# Altium footprint library Huan.PcbLib: 34 footprints (part 1 of 3)
Each footprint in its own frame and in the unit in brackets; x right, y up, seen from the top. Pads: shape width x height; smd on the part's side, far side on the other; paste and mask are expansions set on the pad; w line width, h text height; cw(c..) or ccw(c..) is an arc to the next point about the centre after c.
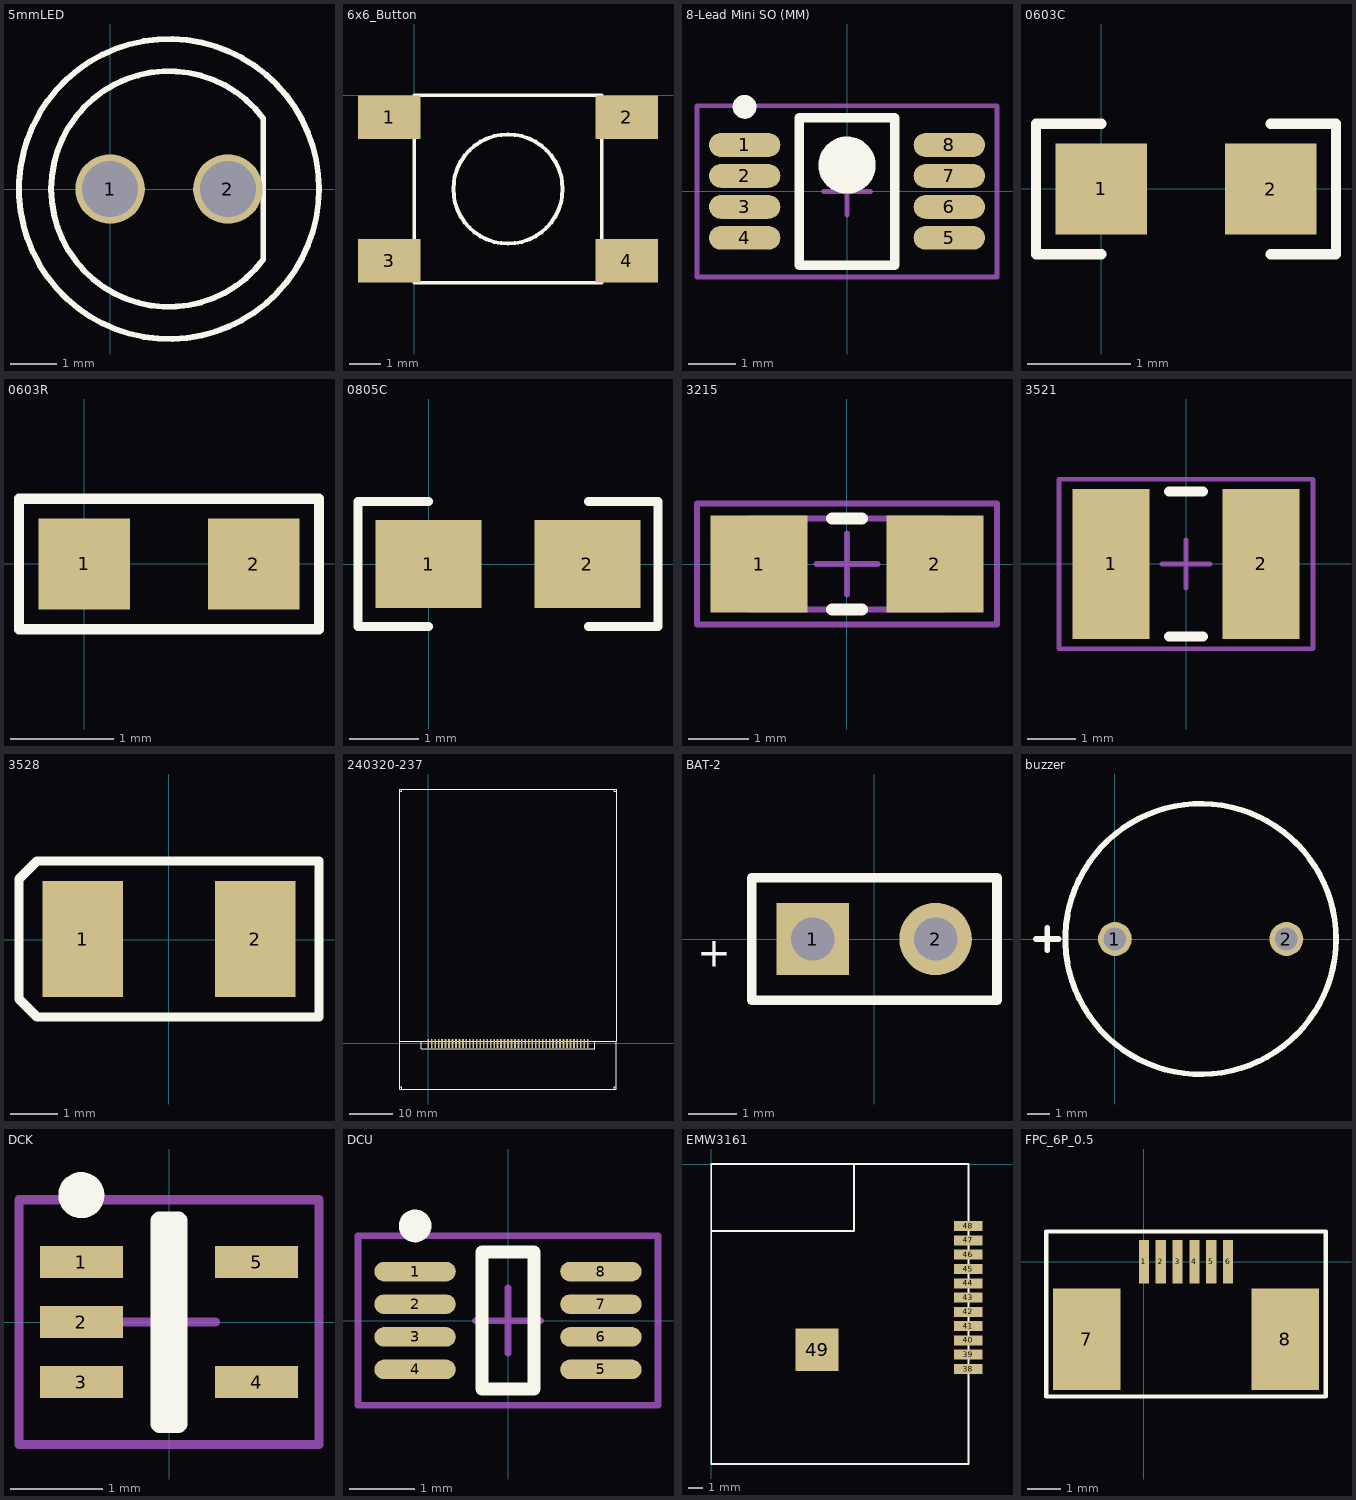
[diagram p0: the footprints below, top view; thin cyan lines are the x and y axes]

## 5mmLED [mm] "5mmLED 绿"
pads (2):
  round 1.5 hole 1.2: 1(0,0) 2(2.54,0)
Top Overlay:
  circle w0.127: c1.27,0 r3.233
  lines w0.127: 3.302,-1.524 cw(c1.27,0) 3.302,1.524 3.302,-1.524
3D body: height 8.81, standoff -5.99, extent -1.694,-3.048 3.726,2.972

## 6x6_Button [mm]
pads (4):
  rect 2x1.4 smd: 1(-0.8,-0.7) 2(6.8,-0.7) 3(-0.8,-5.3) 4(6.8,-5.3)
Top Overlay:
  circle w0.127: c3,-3 r1.75
  lines w0.127: 0,-6 6,-6 6,0 0,0 0,-6
3D body: height 5, standoff 0, extent -2.003,-6 7.997,0

## 8-Lead Mini SO (MM) [mm] "TSOP, 8-Leads, Body 3.1x3.1mm (max), Pitch 0.65mm, IPC Medium Density"
height 1.09
pads (8):
  oval 1.5x0.5 smd: 1(-2.15,0.975) 2(-2.15,0.325) 3(-2.15,-0.325) 4(-2.15,-0.975) 5(2.15,-0.975) 6(2.15,-0.325) 7(2.15,0.325) 8(2.15,0.975)
Top Overlay:
  circle w0.25: c-2.15,1.775 r0.125
  circle w0.6: c0,0.55 r0.3
  lines w0.2: -1,-1.55 -1,1.55 1,1.55 1,-1.55 -1,-1.55
Mechanical 15:
  lines w0.1: -0.5,0 0.5,0 ; 0,-0.5 0,0.5 ; -3.15,-1.8 -3.15,1.8 3.15,1.8 3.15,-1.8 -3.15,-1.8
3D body: height 1.1, standoff 0, extent -2.551,-1.501 2.449,1.499

## 0603C [mil]
pads (2):
  rect 35x35 smd: 1(0,0) 2(65,0)
Top Overlay:
  lines w4: 0,-25 -25,-25 -25,25 0,25 ; 65,-25 90,-25 90,25 65,25
3D body: height 35.04, standoff -0.39, extent -20,-20 82.36,19.37

## 0603R [mil]
pads (2):
  rect 35x35 smd: 1(0,0) 2(65,0)
Top Overlay:
  lines w4: -25,-25 20,-25 90,-25 90,25 43,25 -25,25 -25,-25
3D body: height 20.79, standoff 0, extent -19.18,-20.37 83.18,19

## 0805C [mil]
pads (2):
  rect 60x50 smd: 1(0,0) 2(90,0)
Top Overlay:
  lines w5: 0,-35.43 -40,-35.43 -40,35.43 0,35.43 ; 90.55,-35.43 130,-35.43 130,35.43 90.55,35.43
3D body: height 36.61, standoff -0.39, extent -15.06,-27.12 103.06,28

## 3215 [mm] "Precision Wire Wound Inductor, 2-Leads, Body 3.2x1.5mm, IPC Medium Density"
height 0.55
pads (2):
  rect 1.6x1.6 smd: 1(-1.45,0) 2(1.45,0)
Top Overlay:
  lines w0.2: -0.25,-0.75 0.25,-0.75 ; -0.25,0.75 0.25,0.75
Mechanical 13:
  lines w0.1: -1.6,-0.75 -1.6,0.75 1.6,0.75 1.6,-0.75 -1.6,-0.75
Mechanical 15:
  lines w0.1: -0.5,0 0.5,0 ; 0,-0.5 0,0.5 ; -2.475,-1 -2.475,1 2.475,1 2.475,-1 -2.475,-1
3D body: height 0.55, standoff 0, extent -1.6,-0.75 1.6,0.75

## 3521 [mm] "Precision Wire Wound Inductor, 2-Leads, Body 3.5x3.0mm, IPC Medium Density"
height 1.6
pads (2):
  rect 1.6x3.1 smd: 1(-1.55,0) 2(1.55,0)
Top Overlay:
  lines w0.2: -0.35,-1.5 0.35,-1.5 ; -0.35,1.5 0.35,1.5
Mechanical 15:
  lines w0.1: -0.5,0 0.5,0 ; 0,-0.5 0,0.5 ; -2.625,-1.75 -2.625,1.75 2.625,1.75 2.625,-1.75 -2.625,-1.75

## 3528 [mm]
pads (2):
  rect 1.7x2.45 smd: 1(-1.818,0.011) 2(1.832,0.011)
Top Overlay:
  lines w0.2: -3.168,-1.259 -2.787,-1.64 3.182,-1.64 3.182,1.662 -2.787,1.662 -3.168,1.281 -3.168,-1.259
3D body: height 2.03, standoff 0, extent -1.825,-1.482 1.875,1.448

## 240320-237 [mm]
pads (47):
  rect 0.4x2 smd: 1(36.8,0) 2(36,0) 3(35.2,0) 4(34.4,0) 5(33.6,0) 6(32.8,0) 7(32,0) 8(31.2,0) 9(30.4,0) 10(29.6,0) 11(28.8,0) 12(28,0) 13(27.2,0) 14(26.4,0) 15(25.6,0) 16(24.8,0) 17(24,0) 18(23.2,0) 19(22.4,0) 20(21.6,0) 21(20.8,0) 22(20,0) 23(19.2,0) 24(18.4,0) 25(17.6,0) 26(16.8,0) 27(16,0) 28(15.2,0) 29(14.4,0) 30(13.6,0) 31(12.8,0) 32(12,0) 33(11.2,0) 34(10.4,0) 35(9.6,0) 36(8.8,0) 37(8,0) 38(7.2,0) 39(6.4,0) 40(5.6,0) 41(4.8,0) 42(4,0) 43(3.2,0) 44(2.4,0) 45(1.6,0) 46(0.8,0) 47(0,0)
Top Overlay:
  lines w0.127: -6.6,58.2 -6.1,58.2 -6.1,58.7 ; -6.1,-10.5 -6.1,-10 -6.6,-10 -6.6,-10.5 ; -5.9,58.7 -6.6,58.7 ; 42.9,-10.5 42.9,-10 43.4,-10 43.4,-10.5 ; 43.4,58.2 42.9,58.2 42.9,58.7 43.4,58.7 ; -6.6,-10.5 -6.6,0 ; -6.6,-10.5 43.4,-10.5 ; -6.6,0 -6.6,58.7 ; -6.6,0 -6.6,0.5 -1.6,0.5 ; -6.6,58.7 43.4,58.7 ; -1.6,0.5 38.4,0.5 ; -1.6,0.5 -1.6,-1.2 38.4,-1.2 38.4,0.5 ; 38.4,0.5 43.4,0.5 ; 43.4,-10.5 43.4,0.5 ; 43.4,0.5 43.4,58.7
  text "." at 37.8,-0.2 h0.61

## BAT-2 [mm] "Multicell Battery; 2 Leads"
pads (2):
  rect 1.5x1.5 hole 0.9: 1(-1.27,0)
  round 1.5 hole 0.9: 2(1.27,0)
Top Overlay:
  lines w0.2: -2.54,-1.27 2.54,-1.27 2.54,1.27 -2.54,1.27 -2.54,-1.27
  text "+" at -3.67,-0.577 h0.61

## buzzer [mm]
pads (2):
  round 1.5 hole 1: 1(0,0) 2(7.6,0)
Top Overlay:
  circle w0.254: c3.8,0 r6
  lines w0.254: -3.5,0 -2.5,0 ; -3,-0.5 -3,0.5
3D body: height 9.65, standoff -4.5, extent -5.574,-5.994 9.881,6.006

## DCK [mm] "SOT23, 5-Leads, Body 2.2x2.4mm (max), Pitch 0.65mm, IPC Medium Density"
height 1.1
pads (5):
  rect 0.9x0.35 smd: 1(-0.95,0.65) 2(-0.95,0) 3(-0.95,-0.65) 4(0.95,-0.65) 5(0.95,0.65)
Top Overlay:
  circle w0.25: c-0.95,1.375 r0.125
  lines w0.2: -0.1,-1.1 -0.1,1.1 0.1,1.1 0.1,-1.1 -0.1,-1.1
Mechanical 15:
  lines w0.1: -0.5,0 0.5,0 ; 0,-0.5 0,0.5 ; -1.625,-1.325 1.625,-1.325 1.625,1.325 -1.625,1.325 -1.625,-1.325

## DCU [mm] "TSSOP, 8-Leads, Body 2.1x2.4mm (max), Pitch 0.50mm, IPC Medium Density"
height 0.9
pads (8):
  oval 1.25x0.3 smd: 1(-1.425,0.75) 2(-1.425,0.25) 3(-1.425,-0.25) 4(-1.425,-0.75) 5(1.425,-0.75) 6(1.425,-0.25) 7(1.425,0.25) 8(1.425,0.75)
Top Overlay:
  circle w0.25: c-1.425,1.45 r0.125
  lines w0.2: -0.4,-1.05 -0.4,1.05 0.4,1.05 0.4,-1.05 -0.4,-1.05
Mechanical 15:
  lines w0.1: -0.5,0 0.5,0 ; 0,-0.5 0,0.5 ; -2.3,-1.3 -2.3,1.3 2.3,1.3 2.3,-1.3 -2.3,-1.3

## EMW3161 [mm]
pads (12):
  rect 2x0.7 smd: 38(18,-14.35) 39(18,-13.35) 40(18,-12.35) 41(18,-11.35) 42(18,-10.35) 43(18,-9.35) 44(18,-8.35) 45(18,-7.35) 46(18,-6.35) 47(18,-5.35) 48(18,-4.35)
  rect 3x3 smd: 49(7.4,-13)
Top Overlay:
  lines w0.127: 0,-5 0,0 ; 10,0 10,-4.7 0,-4.7 0,0 ; 0,0 0,-21 18,-21 18,0 0,0

## FPC_6P_0.5 [mm]
pads (8):
  rect 0.3x1.3 smd: 1(0,0) 2(0.5,0) 3(1,0) 4(1.5,0) 5(2,0) 6(2.5,0)
  rect 2x3 smd: 7(-1.7,-2.3) 8(4.2,-2.3)
Top Overlay:
  lines w0.127: -2.9,-4 5.4,-4 5.4,0.9 -0.2,0.9 -2.9,0.9 -2.9,-4
  text "." at -2,0.2 h0.61